# EAGLE library part STM32G0B1C*U (library micro-stm)
Arm® Cortex®-M0+ 32-bit MCU running up to 64MHz, with up to 512kB Flash, 144kB RAM (128kB with hardware parity), USB host/device, 6x USART, timers, ADC, comm. I/Fs, 1.7-3.6V Warning! This only applies to "N" revision which replaces PC6-7 pins with power supply pair VDDIO2/VSS
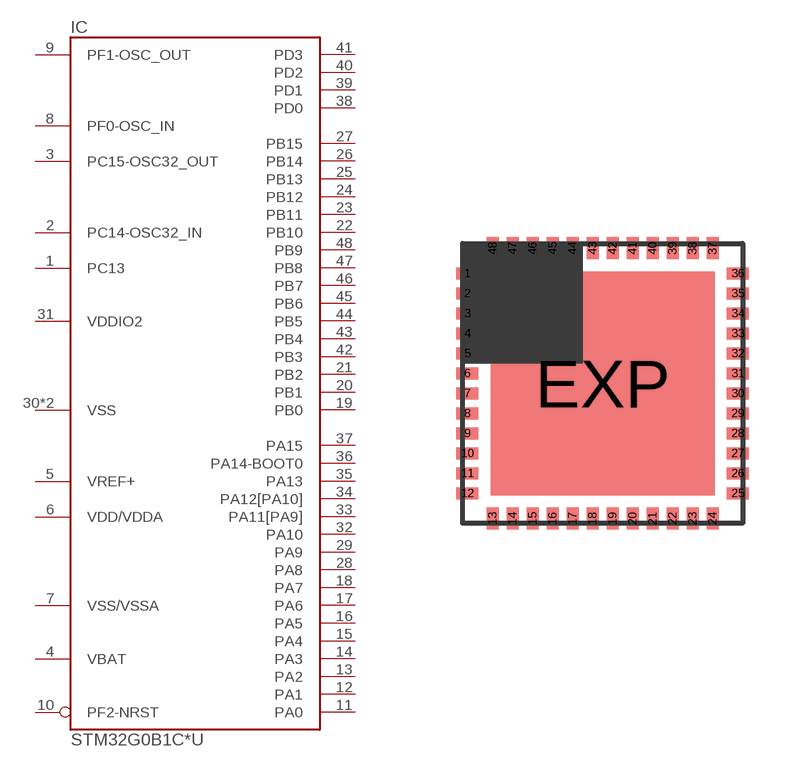
[diagram p183: symbol with the pads of UFQFPN48; footprint UFQFPN48]

Designator prefix IC

## STM32G0B1CBU, STM32G0B1CCU, STM32G0B1CEU  [UFQFPN48]
1  PC13
2  PC14-OSC32_IN
3  PC15-OSC32_OUT
4  VBAT  pwr
5  VREF+  pwr
6  VDD/VDDA  pwr
7  VSS/VSSA  pwr
8  PF0-OSC_IN
9  PF1-OSC_OUT
10  PF2-NRST
11  PA0
12  PA1
13  PA2
14  PA3
15  PA4
16  PA5
17  PA6
18  PA7
19  PB0
20  PB1
21  PB2
22  PB10
23  PB11
24  PB12
25  PB13
26  PB14
27  PB15
28  PA8
29  PA9
30  VSS  pwr
31  VDDIO2  pwr
32  PA10
33  PA11[PA9]
34  PA12[PA10]
35  PA13
36  PA14-BOOT0
37  PA15
38  PD0
39  PD1
40  PD2
41  PD3
42  PB3
43  PB4
44  PB5
45  PB6
46  PB7
47  PB8
48  PB9
EXP  VSS  pwr

## Footprint UFQFPN48 (pad centres in mm)
UFQFPN48 7 x 7 mm, 48-pin ultra thin 0.5 mm pitch quad flat no-lead package
smd 0.55 x 0.3: 1 -3.38,2.75; 2 -3.38,2.25; 3 -3.38,1.75; 4 -3.38,1.25; 5 -3.38,0.75; 6 -3.38,0.25; 7 -3.38,-0.25; 8 -3.38,-0.75; 9 -3.38,-1.25; 10 -3.38,-1.75; 11 -3.38,-2.25; 12 -3.38,-2.75; 25 3.38,-2.75; 26 3.38,-2.25; 27 3.38,-1.75; 28 3.38,-1.25; 29 3.38,-0.75; 30 3.38,-0.25; 31 3.38,0.25; 32 3.38,0.75; 33 3.38,1.25; 34 3.38,1.75; 35 3.38,2.25; 36 3.38,2.75
smd 0.3 x 0.55: 13 -2.75,-3.38; 14 -2.25,-3.38; 15 -1.75,-3.38; 16 -1.25,-3.38; 17 -0.75,-3.38; 18 -0.25,-3.38; 19 0.25,-3.38; 20 0.75,-3.38; 21 1.25,-3.38; 22 1.75,-3.38; 23 2.25,-3.38; 24 2.75,-3.38; 37 2.75,3.38; 38 2.25,3.38; 39 1.75,3.38; 40 1.25,3.38; 41 0.75,3.38; 42 0.25,3.38; 43 -0.25,3.38; 44 -0.75,3.38; 45 -1.25,3.38; 46 -1.75,3.38; 47 -2.25,3.38; 48 -2.75,3.38
smd 5.6 x 5.6: EXP 0,0